# Altium footprint library MergenElektronik_Sensors_PressureSensors.PcbLib: 1 footprints
Each footprint in its own frame and in the unit in brackets; x right, y up, seen from the top. Pads: shape width x height; smd on the part's side, far side on the other; paste and mask are expansions set on the pad; w line width, h text height; cw(c..) or ccw(c..) is an arc to the next point about the centre after c.
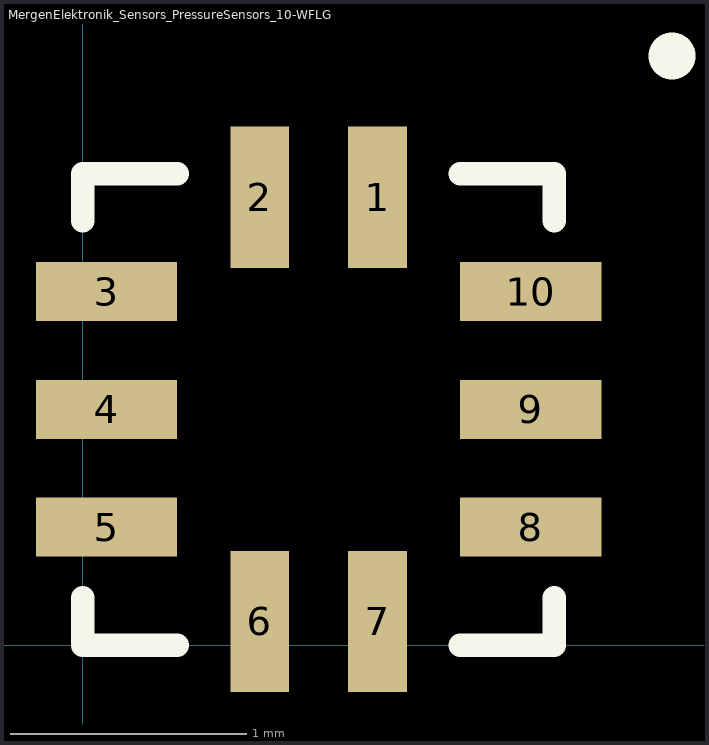
[diagram p0: the footprint, top view; thin cyan lines are the x and y axes]

## MergenElektronik_Sensors_PressureSensors_10-WFLGA [mm] "10-WFLGA"
pads (10):
  rect 0.25x0.6 smd: 1(1.25,1.9) 2(0.75,1.9) 6(0.75,0.1) 7(1.25,0.1)
  rect 0.6x0.25 smd: 3(0.1,1.5) 4(0.1,1) 5(0.1,0.5) 8(1.9,0.5) 9(1.9,1) 10(1.9,1.5)
Top Overlay:
  circle w0.2: c2.5,2.5 r0
  lines w0.1: 0,0.2 0,0 0.4,0 ; 0,1.8 0,2 0.4,2 ; 1.6,0 2,0 2,0.2 ; 1.6,2 2,2 2,1.8
3D body "10LGA_2X2X0p75_BOS.step": height 0.81, standoff 0, extent -0.029,-0.029 2.029,2.029